# Altium footprint library ElectromagneticPositioning.PcbLib: 24 footprints (part 1 of 2)
Each footprint in its own frame and in the unit in brackets; x right, y up, seen from the top. Pads: shape width x height; smd on the part's side, far side on the other; paste and mask are expansions set on the pad; w line width, h text height; cw(c..) or ccw(c..) is an arc to the next point about the centre after c.
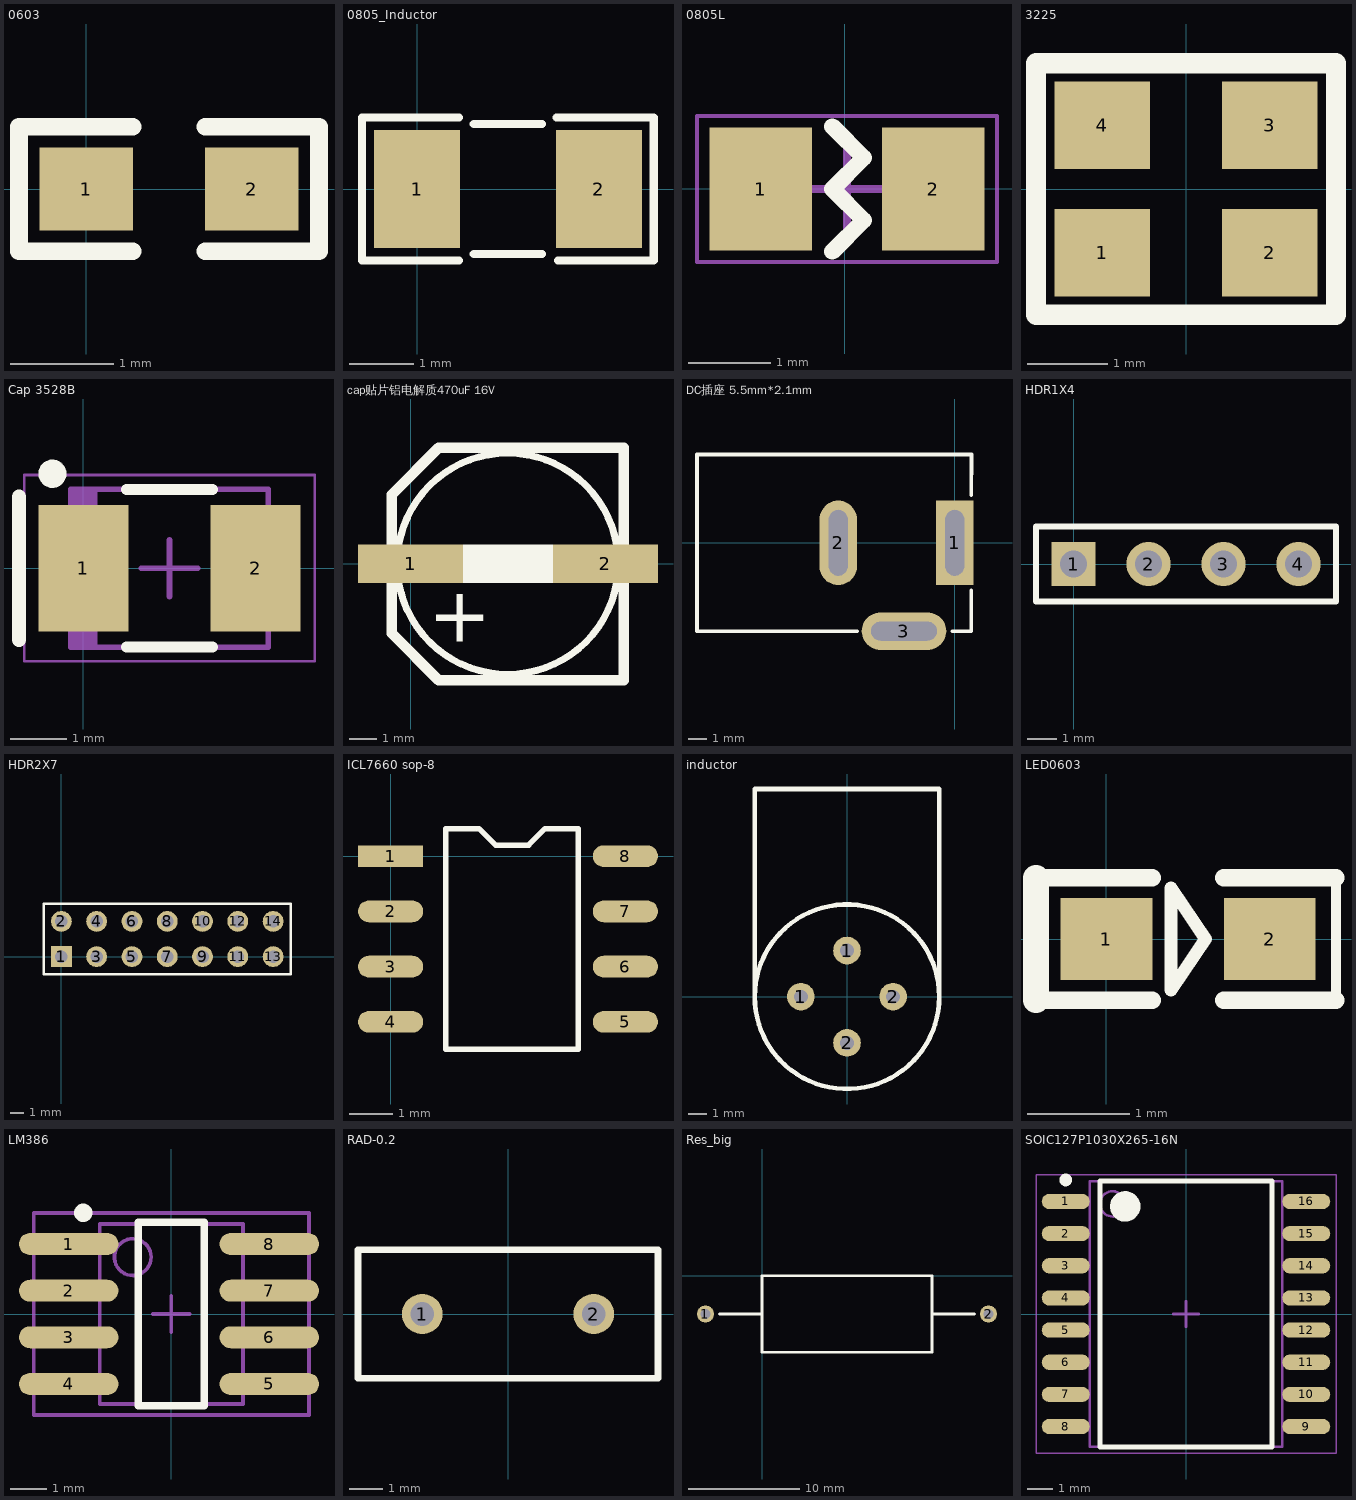
[diagram p0: the footprints below, top view; thin cyan lines are the x and y axes]

## 0603 [mm]
pads (2):
  rect 0.9x0.8 smd: 1(0,0) 2(1.6,0)
Top Overlay:
  lines w0.17: 0.45,-0.6 -0.65,-0.6 -0.65,0.6 0.45,0.6 ; 1.15,-0.6 2.25,-0.6 2.25,0.6 1.15,0.6

## 0805_Inductor [mm]
pads (2):
  rect 1.35x1.85 smd: 1(0,0) 2(2.85,0)
Top Overlay:
  lines w0.127: 0.66,-1.118 -0.864,-1.118 -0.864,1.118 0.66,1.118 ; 0.889,-1.016 1.956,-1.016 ; 0.889,1.016 1.956,1.016 ; 2.184,1.118 3.708,1.118 3.708,-1.118 2.21,-1.118

## 0805L [mm]
pads (2):
  rect 1.25x1.5 smd: 1(-1.025,0) 2(1.075,0)
Top Overlay:
  lines w0.2: -0.152,-0.762 0.229,-0.381 -0.152,0 0.229,0.381 -0.152,0.762
Mechanical 15:
  lines w0.05: -1.803,-0.889 1.854,-0.889 1.854,0.889 -1.803,0.889 -1.803,-0.889
  lines w0.1: -0.475,0 0.525,0 ; 0.025,-0.5 0.025,0.5
3D body "User Library-RES_2013-0805.STEP": height 0.76, standoff 0, extent -1.15,-0.675 1.15,0.675

## 3225 [mm]
pads (4):
  rect 1.2x1.1 smd: 1(-1.05,-0.8) 2(1.05,-0.8) 3(1.05,0.8) 4(-1.05,0.8)
Top Overlay:
  lines w0.254: -1.88,-1.575 -1.88,1.575 1.88,1.575 1.88,-1.575 -1.88,-1.575

## Cap 3528B [mm]
pads (2):
  rect 1.6x2.25 smd: 1(0,0) 2(3.05,0)
Top Overlay:
  circle w0.25: c-0.55,1.675 r0.125
  lines w0.2: 0.762,-1.397 2.286,-1.397 ; 0.762,1.397 2.286,1.397
  lines w0.254: -1.143,-1.27 -1.143,1.27
Mechanical 13:
  rectangle: -0.225,-1.4 0.246,1.4
  lines w0.1: -0.225,-1.4 -0.225,1.4 3.275,1.4 3.275,-1.4 -0.225,-1.4
Mechanical 15:
  lines w0.05: -1.05,-1.65 -1.05,1.65 4.1,1.65 4.1,-1.65 -1.05,-1.65
  lines w0.1: 1.025,0 2.025,0 ; 1.525,-0.5 1.525,0.5
3D body: height 1.9, standoff 0, extent -0.225,-1.4 3.275,1.4

## cap贴片铝电解质470uF 16V [mm]
pads (2):
  rect 3.8x1.4 smd: 1(0,0) 2(7.051,0)
Top Overlay:
  rectangle: 1.89,-0.7 5.153,0.7
  lines w0.254: 7.515,0 ccw(c3.515,0) 7.515,0
  lines w0.381: -0.686,2.499 1.013,4.198 ; -0.686,2.499 -0.686,-2.52 1.013,-4.219 7.714,-4.219 7.714,4.198 1.013,4.198 ; -0.686,2.499 1.013,4.198
  text "+" at 0.64,-2.818 h2

## DC插座 5.5mm*2.1mm [mm]
pads (3):
  rect 2x4.5 hole 1 slot 3.5 at 90 deg: 1(0,0)
  oval 2x4.5 hole 1 slot 3.5 at 90 deg: 2(-6.2,0)
  oval 4.5x2 hole 1 slot 3.5 at 0 deg: 3(-2.7,-4.7)
Top Overlay:
  lines w0.2: -13.716,4.7 -13.716,-4.699 -5.207,-4.699 ; -13.7,4.7 0.888,4.7 0.885,2.54 ; -0.127,-4.699 0.884,-4.699 0.884,-2.54
Bottom Overlay:
  lines w0.127: -1.016,3.302 0.508,3.302 ; -0.254,2.54 -0.254,4.064

## HDR1X4 [mm]
pads (4):
  rect 1.5x1.5 hole 0.9: 1(0,0)
  round 1.5 hole 0.9: 2(2.54,0) 3(5.08,0) 4(7.62,0)
Top Overlay:
  lines w0.2: -1.27,-1.27 8.89,-1.27 8.89,1.27 -1.27,1.27 -1.27,-1.27

## HDR2X7 [mm]
pads (14):
  rect 1.5x1.5 hole 0.9: 1(0,0)
  round 1.5 hole 0.9: 2(0,2.54) 3(2.54,0) 4(2.54,2.54) 5(5.08,0) 6(5.08,2.54) 7(7.62,0) 8(7.62,2.54) 9(10.16,0) 10(10.16,2.54) 11(12.7,0) 12(12.7,2.54) 13(15.24,0) 14(15.24,2.54)
Top Overlay:
  lines w0.2: -1.27,-1.27 16.51,-1.27 16.51,3.81 -1.27,3.81 -1.27,-1.27

## ICL7660 sop-8 [mm]
pads (8):
  rect 1.5x0.5 smd: 1(0,0)
  oval 1.5x0.5 smd: 2(0,-1.27) 3(0,-2.54) 4(0,-3.81) 5(5.4,-3.81) 6(5.4,-2.54) 7(5.4,-1.27) 8(5.4,0)
Top Overlay:
  lines w0.127: 1.27,-4.445 1.27,0.635 2.032,0.635 2.413,0.254 3.175,0.254 3.556,0.635 4.318,0.635 4.318,-4.445 1.27,-4.445

## inductor [mil]
pads (4):
  round 60 hole 30: 1(-100,0) 1(0,100) 2(0,-100) 2(100,0)
Top Overlay:
  circle w10: c0,0 r200
  lines w10: -200,0 -200,450 200,450 200,0

## LED0603 [mm]
pads (2):
  rect 0.9x0.8 smd: 1(0,0) 2(1.6,0)
Top Overlay:
  lines w0.102: 2.25,-0.6 2.25,0.6
  lines w0.127: 0.635,-0.5 0.635,0.5 0.97,0 0.635,-0.5
  lines w0.17: -0.65,-0.6 0.45,-0.6 ; -0.65,0.6 0.45,0.6 ; 1.15,-0.6 2.25,-0.6 ; 1.15,0.6 2.25,0.6
  lines w0.254: -0.69,-0.6 -0.69,0.6

## LM386 [mm]
pads (8):
  oval 2.708x0.6 smd: 1(-2.794,1.905) 2(-2.794,0.635) 3(-2.794,-0.635) 4(-2.794,-1.905) 5(2.667,-1.905) 6(2.667,-0.635) 7(2.667,0.635) 8(2.667,1.905)
Top Overlay:
  circle w0.25: c-2.4,2.755 r0.125
  lines w0.2: -0.9,-2.5 -0.9,2.5 0.9,2.5 0.9,-2.5 -0.9,-2.5
Mechanical 13:
  circle w0.1: c-1.05,1.55 r0.5
  lines w0.1: -1.95,-2.45 -1.95,2.45 1.95,2.45 1.95,-2.45 -1.95,-2.45
Mechanical 15:
  lines w0.1: -0.5,0 0.5,0 ; 0,-0.5 0,0.5 ; -3.75,-2.75 -3.75,2.75 3.75,2.75 3.75,-2.75 -3.75,-2.75
3D body: height 1.75, standoff 0, extent -1.95,-2.45 1.95,2.45

## RAD-0.2 [mm]
pads (2):
  round 1.2 hole 0.7: 1(-2.54,0) 2(2.54,0)
Top Overlay:
  lines w0.2: -4.445,-1.905 -4.445,1.905 4.445,1.905 4.445,-1.905 -4.445,-1.905

## Res_big [mil]
pads (2):
  round 60 hole 35: 1(-200,-135) 2(800,-135)
Top Overlay:
  lines w10: -150,-135 -145,-135 0,-135 ; 600,-135 750,-135 ; 0,-270 600,-270 600,0 0,0 0,-270

## SOIC127P1030X265-16N [mm]
pads (16):
  oval 1.9x0.6 smd: 1(-4.75,4.445) 2(-4.75,3.175) 3(-4.75,1.905) 4(-4.75,0.635) 5(-4.75,-0.635) 6(-4.75,-1.905) 7(-4.75,-3.175) 8(-4.75,-4.445) 9(4.75,-4.445) 10(4.75,-3.175) 11(4.75,-1.905) 12(4.75,-0.635) 13(4.75,0.635) 14(4.75,1.905) 15(4.75,3.175) 16(4.75,4.445)
Top Overlay:
  circle w0.6: c-2.4,4.25 r0.3
  circle w0.25: c-4.75,5.295 r0.125
  lines w0.2: -3.4,-5.25 3.4,-5.25 3.4,5.25 -3.4,5.25 -3.4,-5.25
Mechanical 13:
  circle w0.1: c-2.9,4.35 r0.5
  lines w0.1: -3.8,-5.25 3.8,-5.25 3.8,5.25 -3.8,5.25 -3.8,-5.25
Mechanical 15:
  lines w0.05: -5.925,-5.5 5.925,-5.5 5.925,5.5 -5.925,5.5 -5.925,-5.5
  lines w0.1: -0.5,0 0.5,0 ; 0,-0.5 0,0.5
3D body: height 2.65, standoff 0.1, extent -3.8,-5.25 3.8,5.25